# Altium footprint library UBT1E331MPD1TD.PcbLib: 1 footprints
Each footprint in its own frame and in the unit in brackets; x right, y up, seen from the top. Pads: shape width x height; smd on the part's side, far side on the other; paste and mask are expansions set on the pad; w line width, h text height; cw(c..) or ccw(c..) is an arc to the next point about the centre after c.
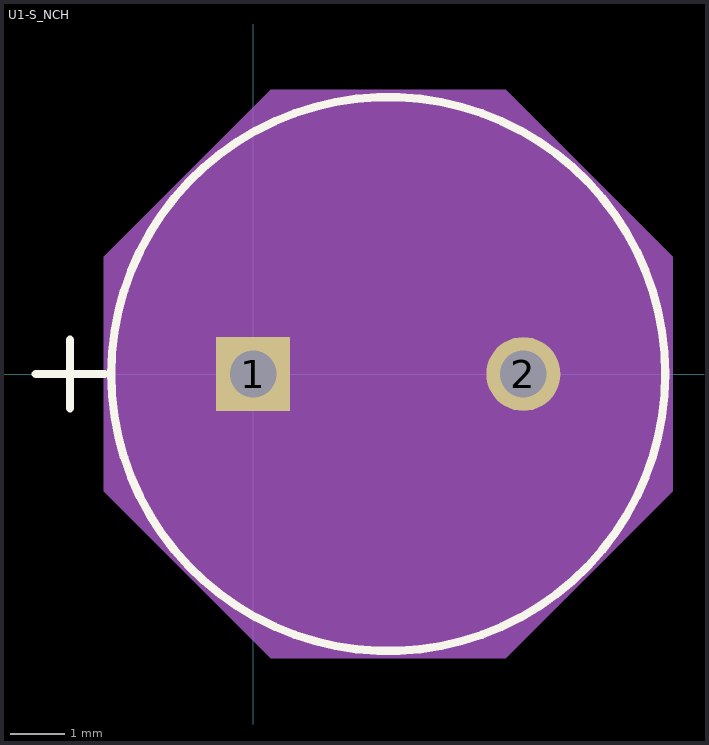
[diagram p0: the footprint, top view; thin cyan lines are the x and y axes]

## U1-S_NCH [mil]
pads (2):
  rect 54x54 / inner round 60 / far side rect 54x54 hole 34 paste-27 mask+0: 1(0,0)
  round 54 / inner round 60 / far side round 54 hole 34 paste-27 mask+0: 2(197,0)
Top Overlay:
  circle w6: c98.5,0 r202
  lines w6: -158.5,0 -108.5,0 ; -133.5,-25 -133.5,25
Mechanical 13:
  circle w0: c98.5,0 r197
  lines w1: -158.5,0 -108.5,0 ; -133.5,-25 -133.5,25
Mechanical 15:
  region: -108.5,85.24 13.26,207 183.74,207 305.5,85.24 305.5,-85.24 183.74,-207 13.26,-207 -108.5,-85.24
  lines w1: -108.5,-85.24 13.26,-207 183.74,-207 305.5,-85.24 305.5,85.24 183.74,207 13.26,207 -108.5,85.24 -108.5,-85.24
3D body "U1-S_NCH.step": height 620.63, standoff -172.01, extent -98.5,-197 296.48,197